# Altium footprint library jasiel.PcbLib: 39 footprints (part 1 of 3)
Each footprint in its own frame and in the unit in brackets; x right, y up, seen from the top. Pads: shape width x height; smd on the part's side, far side on the other; paste and mask are expansions set on the pad; w line width, h text height; cw(c..) or ccw(c..) is an arc to the next point about the centre after c.
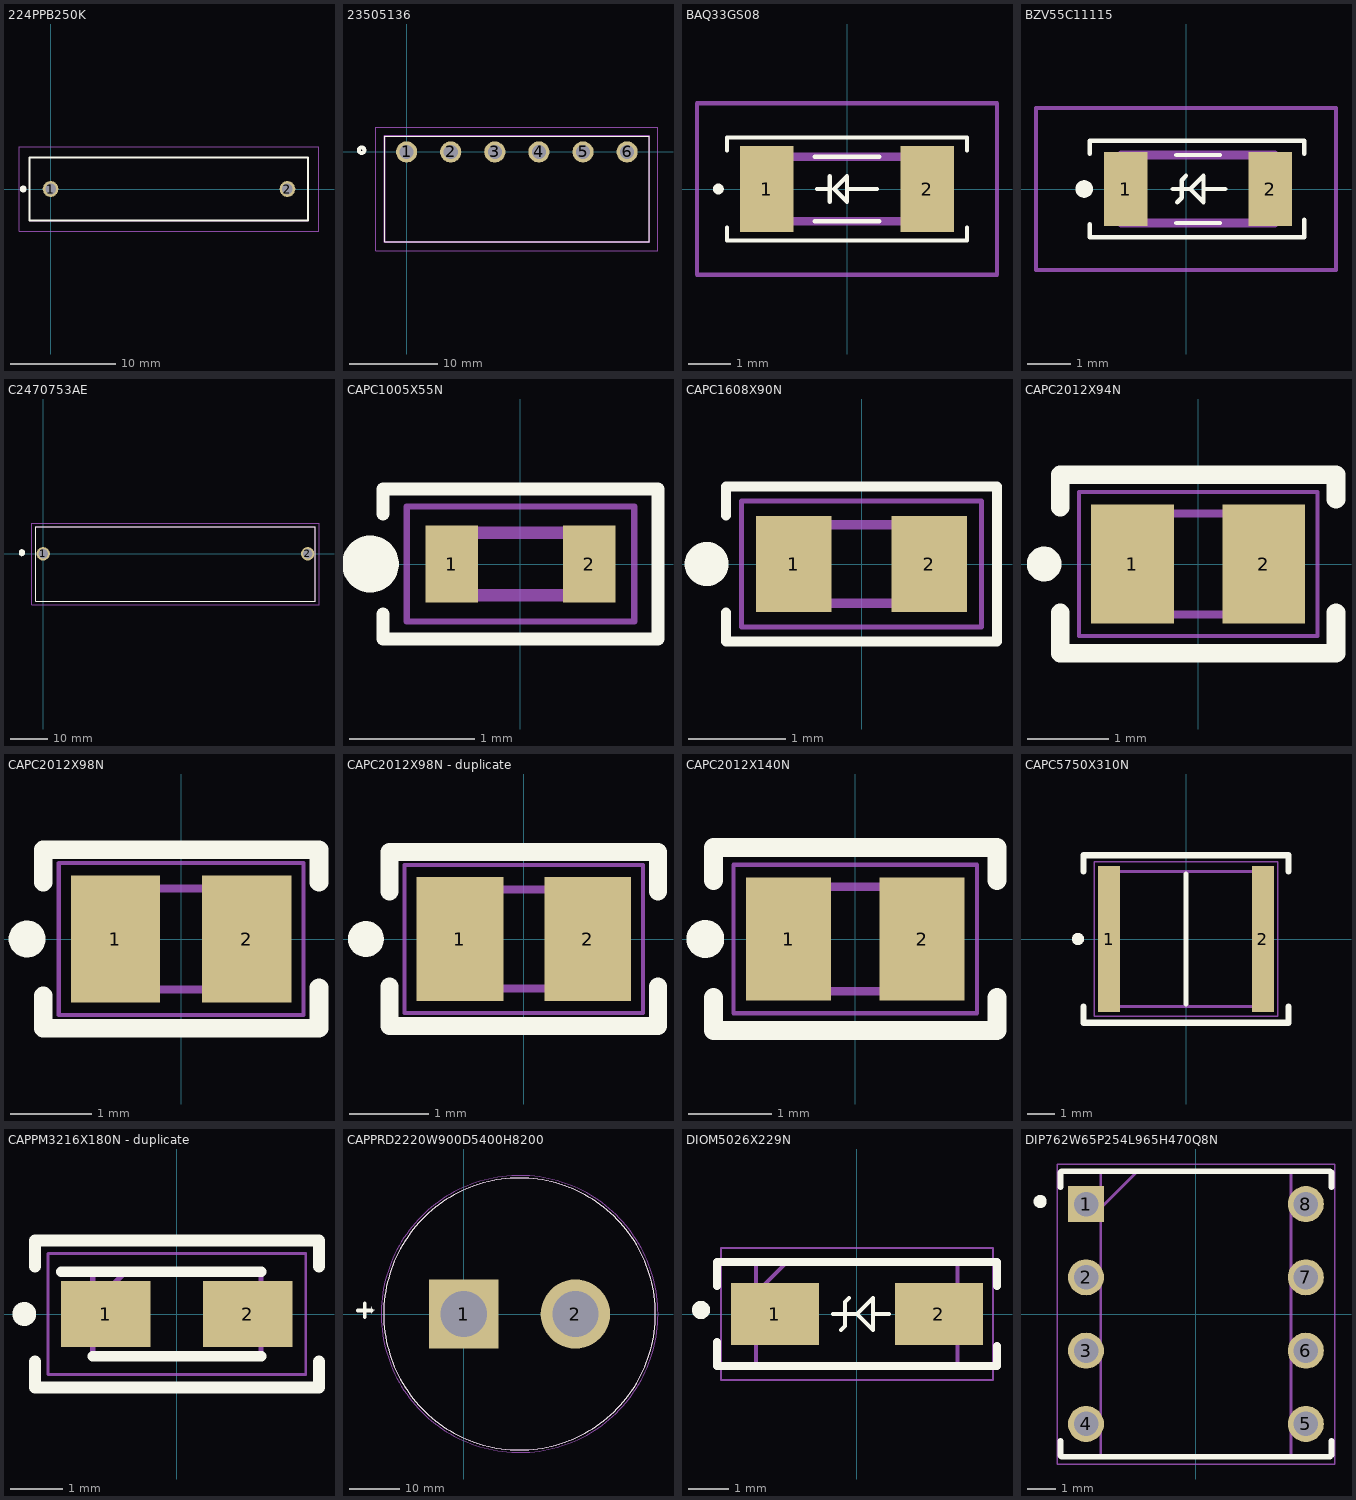
[diagram p0: the footprints below, top view; thin cyan lines are the x and y axes]

## 224PPB250K [mm]
pads (2):
  round 1.5 hole 1: 1(0,0) 2(22.5,0)
Top Overlay:
  circle w0.254: c-2.6,0 r0.2
  lines w0.2: -2.7,0 ccw(c-2.65,0) -2.6,0 ; -2.7,0 cw(c-2.65,0) -2.6,0 ; -2.7,0 ccw(c-2.65,0) -2.6,0 ; -2,-3 -2,3 24.45,3 24.45,-3 -2,-3
Mechanical 13:
  lines w0.1: -2,-3 -2,3 24.5,3 24.5,-3 -2,-3
Mechanical 15:
  lines w0.1: -3,-4 -3,4 25.5,4 25.5,-4 -3,-4
3D body "224PPB250K.stp": height 15.1, standoff -5, extent -2,-3 24.5,3

## 23505136 [mm]
pads (6):
  round 2.4 hole 1.6: 1(0,0) 2(5,0) 3(10,0) 4(15,0) 5(20,0) 6(25,0)
Top Overlay:
  circle w0.254: c-5.1,0.2 r0.412
  circle w0.254: c-5.1,0.2 r0.224
  lines w0.1: -2.5,-10.2 27.5,-10.2 27.5,1.8 -2.5,1.8 -2.5,-10.2
Mechanical 13:
  lines w0.2: -2.5,-10.2 27.5,-10.2 27.5,1.8 -2.5,1.8 -2.5,-10.2
Mechanical 15:
  lines w0.1: -3.5,-11.2 28.5,-11.2 28.5,2.8 -3.5,2.8 -3.5,-11.2
3D body "2350513-6.stp": height 8.28, standoff -4.52, extent -3.27,-10.14 28.33,1.86

## BAQ33GS08 [mm]
pads (2):
  rect 1.25x2 smd: 1(-1.875,0) 2(1.875,0)
Top Overlay:
  lines w0.1: -0.75,-0.75 0.75,-0.75 ; -0.75,0.75 0.75,0.75
  lines w0.102: -2.8,-0.9 -2.8,-1.2 2.8,-1.2 2.8,-0.9 ; -2.8,0.9 -2.8,1.2 2.8,1.2 2.8,0.9 ; -0.7,0 -0.4,0 ; -0.4,-0.3 -0.4,0.3 ; 0.7,0 0,0 ; 0,0 0,0.3 -0.3,0 0,-0.3 0,0
  lines w0.125: -3.063,0.001 ccw(c-3,0.001) -2.938,0.001 ccw(c-3,-0.001) -3.063,-0.001
Mechanical 13:
  lines w0.1: -1.5,-0.75 -1.5,0.75
  lines w0.2: -1.75,-0.75 -1.75,0.75 1.75,0.75 1.75,-0.75 -1.75,-0.75
Mechanical 15:
  lines w0.1: -3.5,-2 -3.5,2 3.5,2 3.5,-2 -3.5,-2

## BZV55C11115 [mm]
pads (2):
  rect 1x1.7 smd: 1(-1.375,0) 2(1.925,0)
Top Overlay:
  lines w0.1: -0.225,-0.775 0.775,-0.775 ; -0.225,0.775 0.775,0.775
  lines w0.102: -2.2,-0.8 -2.2,-1.1 2.7,-1.1 2.7,-0.7 ; -2.2,0.8 -2.2,1.1 2.7,1.1 2.7,0.8 ; -0.3,0 0.1,0 ; -0.2,-0.3 -0.1,-0.2 -0.1,0 -0.1,0.2 0,0.3 ; 0.9,0 0.4,0 ; 0.1,0 0.4,-0.3 0.4,0 ; 0.1,0 0.4,0.3 0.4,0
  lines w0.2: -2.325,-0.1 cw(c-2.325,0) -2.325,0.1 cw(c-2.325,0) -2.325,-0.1
Mechanical 13:
  lines w0.2: -1.475,-0.775 -1.475,0.775 2.025,0.775 2.025,-0.775 -1.475,-0.775
Mechanical 15:
  lines w0.1: -3.425,-1.85 -3.425,1.85 3.425,1.85 3.425,-1.85 -3.425,-1.85

## C2470753AE [mm]
pads (2):
  round 3.6 hole 2.5: 1(0,0) 2(70.94,0)
Top Overlay:
  circle w0.254: c-5.7,0.3 r0.2
  circle w0.254: c-5.7,0.3 r0.412
  circle w0.254: c-5.7,0.3 r0.566
  circle w0.254: c-5.7,0.3 r0.762
  circle w0.254: c-5.7,0.3 r0.583
  lines w0.1: -2.03,-12.7 72.97,-12.7 72.97,7.24 -2.03,7.24 -2.03,-12.7
  lines w0.203: -5.7,0.3 -5.7,0.4
Mechanical 13:
  lines w0.2: -2.03,-12.7 72.97,-12.7 72.97,7.24 -2.03,7.24 -2.03,-12.7
Mechanical 15:
  lines w0.1: -3.03,-13.7 73.97,-13.7 73.97,8.24 -3.03,8.24 -3.03,-13.7
3D body "C247-075-3AE.stp": height 38.1, standoff -5, extent -2.03,-12.7 72.97,7.24

## CAPC1005X55N [mm]
pads (2):
  rect 0.42x0.62 smd: 1(-0.55,0) 2(0.55,0)
Top Overlay:
  circle w0.254: c-1.2,0 r0.1
  lines w0.102: -1.1,-0.4 -1.1,-0.6 1.1,-0.6 1.1,0.6 -1.1,0.6 -1.1,0.4
Mechanical 13:
  lines w0.1: -0.5,-0.25 -0.5,0.25 0.5,0.25 0.5,-0.25 -0.5,-0.25
Mechanical 15:
  lines w0.05: -0.91,-0.46 -0.91,0.46 0.91,0.46 0.91,-0.46 -0.91,-0.46
3D body "CGA2B3X7R1V104M050BB.stp": height 0.55, standoff 0, extent -0.5,-0.25 0.5,0.25

## CAPC1608X90N [mm]
pads (2):
  rect 0.78x0.99 smd: 1(-0.7,0) 2(0.7,0)
Top Overlay:
  circle w0.254: c-1.6,0 r0.1
  lines w0.102: -1.4,-0.5 -1.4,-0.8 1.4,-0.8 1.4,0.8 -1.4,0.8 -1.4,0.5
Mechanical 13:
  lines w0.1: -0.8,-0.405 0.8,-0.405 0.8,0.405 -0.8,0.405 -0.8,-0.405
Mechanical 15:
  lines w0.05: -1.24,-0.65 1.24,-0.65 1.24,0.65 -1.24,0.65 -1.24,-0.65
3D body "0603YD105MAT2A.stp": height 0.9, standoff 0, extent -0.8,-0.405 0.8,0.405

## CAPC2012X94N [mm]
pads (2):
  rect 1.02x1.47 smd: 1(-0.81,0) 2(0.81,0)
Top Overlay:
  circle w0.229: c-1.9,0 r0.1
  lines w0.229: -1.7,-0.6 -1.7,-1.1 1.7,-1.1 1.7,-0.6 ; -1.7,0.7 -1.7,1.1 1.7,1.1 1.7,0.8
Mechanical 13:
  lines w0.1: -1.005,-0.625 -1.005,0.625 1.005,0.625 1.005,-0.625 -1.005,-0.625
Mechanical 15:
  lines w0.05: -1.47,-0.89 -1.47,0.89 1.47,0.89 1.47,-0.89 -1.47,-0.89
3D body "0805YC104KAT2A.stp": height 0.94, standoff 0, extent -1.005,-0.625 1.005,0.625

## CAPC2012X98N [mm]
pads (2):
  rect 1.1x1.57 smd: 1(-0.81,0) 2(0.81,0)
Top Overlay:
  circle w0.254: c-1.9,0 r0.1
  lines w0.229: -1.7,-0.7 -1.7,-1.1 1.7,-1.1 1.7,-0.6 ; -1.7,0.7 -1.7,1.1 1.7,1.1 1.7,0.7
Mechanical 13:
  lines w0.1: -1,-0.625 -1,0.625 1,0.625 1,-0.625 -1,-0.625
Mechanical 15:
  lines w0.05: -1.51,-0.94 -1.51,0.94 1.51,0.94 1.51,-0.94 -1.51,-0.94
3D body "C0805Y102K3RACTU.stp": height 0.98, standoff 0, extent -1,-0.625 1,0.625

## CAPC2012X98N - duplicate [mm]
pads (2):
  rect 1.1x1.57 smd: 1(-0.81,0) 2(0.81,0)
Top Overlay:
  circle w0.254: c-2,0 r0.1
  lines w0.229: -1.7,-0.6 -1.7,-1.1 1.7,-1.1 1.7,-0.6 ; -1.7,0.6 -1.7,1.1 1.7,1.1 1.7,0.6
Mechanical 13:
  lines w0.1: -1,-0.625 1,-0.625 1,0.625 -1,0.625 -1,-0.625
Mechanical 15:
  lines w0.05: -1.51,-0.94 1.51,-0.94 1.51,0.94 -1.51,0.94 -1.51,-0.94
3D body "C0805Y102K3RACTU.stp": height 0.98, standoff 0, extent -1,-0.625 1,0.625

## CAPC2012X140N [mm]
pads (2):
  rect 1.02x1.47 smd: 1(-0.8,0) 2(0.8,0)
Top Overlay:
  circle w0.254: c-1.8,0 r0.1
  lines w0.229: -1.7,-0.7 -1.7,-1.1 1.7,-1.1 1.7,-0.7 ; -1.7,0.7 -1.7,1.1 1.7,1.1 1.7,0.7
Mechanical 13:
  lines w0.1: -1,-0.625 1,-0.625 1,0.625 -1,0.625 -1,-0.625
Mechanical 15:
  lines w0.05: -1.46,-0.89 1.46,-0.89 1.46,0.89 -1.46,0.89 -1.46,-0.89
3D body "C0805C105Z3VACTU.stp": height 1.4, standoff 0, extent -1,-0.625 1,0.625

## CAPC5750X310N [mm]
pads (2):
  rect 0.81x5.41 smd: 1(-2.85,0) 2(2.85,0)
Top Overlay:
  circle w0.254: c-4,0 r0.1
  lines w0.2: 0,-2.4 0,2.4
  lines w0.229: -3.8,-2.5 -3.8,-3.1 3.8,-3.1 3.8,-2.5 ; -3.8,2.5 -3.8,3.1 3.8,3.1 3.8,2.5
Mechanical 13:
  lines w0.1: -2.85,-2.5 2.85,-2.5 2.85,2.5 -2.85,2.5 -2.85,-2.5
Mechanical 15:
  lines w0.05: -3.405,-2.86 3.405,-2.86 3.405,2.86 -3.405,2.86 -3.405,-2.86
3D body "C5750X7T2E225M250KA.stp": height 3.07, standoff 0.03, extent -2.65,-2.45 2.65,2.45

## CAPPM3216X180N - duplicate [mm]
pads (2):
  rect 1.7x1.25 smd: 1(-1.35,0) 2(1.35,0)
Top Overlay:
  circle w0.254: c-2.9,0 r0.1
  lines w0.2: -2.2,0.8 1.6,0.8 ; -1.6,-0.8 1.6,-0.8
  lines w0.229: -2.7,-0.9 -2.7,-1.4 2.7,-1.4 2.7,-0.9 ; -2.7,0.9 -2.7,1.4 2.7,1.4 2.7,0.9
Mechanical 13:
  lines w0.1: -1.6,0.175 -0.975,0.8 ; -1.6,-0.8 1.6,-0.8 1.6,0.8 -1.6,0.8 -1.6,-0.8
Mechanical 15:
  lines w0.05: -2.45,-1.15 2.45,-1.15 2.45,1.15 -2.45,1.15 -2.45,-1.15
3D body "T494A106M020AT.stp": height 1.8, standoff 0, extent -1.6,-0.8 1.6,0.8

## CAPPRD2220W900D5400H8200 [mm]
pads (2):
  rect 13.8x13.8 hole 9.2: 1(0,0)
  round 13.8 hole 9.2: 2(22.2,0)
Top Overlay:
  circle w0.2: c11.1,0 r27
  lines w0.762: -21,0.7 -18.3,0.7 ; -19.65,-0.65 -19.65,0.7 ; -19.65,1.95 -19.65,0.7 ; -19.65,2.15 -19.65,0.7
  text "+" at -19.146,0 h1.52
Mechanical 13:
  circle w0.1: c11.1,0 r27
Mechanical 15:
  circle w0.05: c11.1,0 r27.5
3D body "ALS70A362KE250.stp": height 82, standoff -10, extent -16.4,-27.49 38.6,27.49

## DIOM5026X229N [mm]
pads (2):
  rect 2.2x1.55 smd: 1(-2.05,0) 2(2.05,0)
Top Overlay:
  circle w0.254: c-3.9,0.1 r0.1
  lines w0.102: -0.4,-0.4 -0.3,-0.3 -0.3,0 ; -0.2,0.4 -0.3,0.3 -0.3,0 ; 0.8,0 0.6,0 0.4,0 ; -0.3,0 -0.6,0 0,0 ; 0,0 0.4,-0.4 0.4,0 ; 0,0 0.4,0.4 0.4,0.2 0.4,0
  lines w0.2: -2.825,1.298 2.52,1.298 ; -2.52,-1.298 2.52,-1.298
  lines w0.203: -3.5,-0.7 -3.5,-1.296 -3.498,-1.298 -2.52,-1.298 ; -3.5,0.7 -3.5,1.296 -3.498,1.298 -2.825,1.298 ; 2.52,-1.298 3.502,-1.298 ; 2.52,1.298 3.498,1.298 3.5,1.3 3.5,0.7 ; 3.5,-1.296 3.502,-1.298 ; 3.502,-0.798 3.502,-1.298
Mechanical 13:
  lines w0.1: -2.52,0.522 -1.745,1.298 ; -2.52,-1.298 -2.52,1.298 2.52,1.298 2.52,-1.298 -2.52,-1.298
Mechanical 15:
  lines w0.05: -3.4,-1.645 -3.4,1.645 3.4,1.645 3.4,-1.645 -3.4,-1.645
3D body "SMA6J5.0A.stp": height 2.29, standoff 0, extent -2.52,-1.298 2.52,1.298

## DIP762W65P254L965H470Q8N [mm]
pads (8):
  rect 1.25x1.25 hole 0.85: 1(-3.81,3.81)
  round 1.25 hole 0.85: 2(-3.81,1.27) 3(-3.81,-1.27) 4(-3.81,-3.81) 5(3.81,-3.81) 6(3.81,-1.27) 7(3.81,1.27) 8(3.81,3.81)
Top Overlay:
  circle w0.254: c-5.4,3.9 r0.1
  lines w0.2: -4.435,4.95 3.3,4.95 ; -3.3,-4.95 3.3,-4.95
  lines w0.203: -4.7,-4.4 -4.7,-4.9 -4.65,-4.95 -3.3,-4.95 ; -4.7,4.4 -4.7,4.9 -4.65,4.95 -4.435,4.95 ; 3.3,-4.95 4.641,-4.95 4.7,-4.891 4.7,-4.4 ; 3.3,4.95 4.65,4.95 4.7,4.9 4.7,4.4
Mechanical 13:
  lines w0.1: -3.3,3.68 -2.03,4.95 ; -3.3,-4.95 -3.3,4.95 3.3,4.95 3.3,-4.95 -3.3,-4.95
Mechanical 15:
  lines w0.05: -4.81,-5.2 -4.81,5.2 4.81,5.2 4.81,-5.2 -4.81,-5.2
3D body "HCPL-3120.stp": height 4.7, standoff -3.5, extent -3.972,-4.925 3.973,4.725